# EAGLE library part RN (library rc)
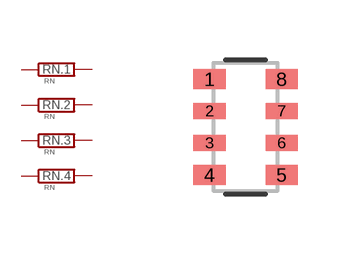
[diagram p2: symbol with the pads of R_4X0603; footprint R_4X0603]

Designator prefix RN; gates .1=R .2=R .3=R .4=R

## RN-1%-0603 (PACKAGE: RN0603; TOLERANCE: 1%), RN-5%-0603 (PACKAGE: RN0603; TOLERANCE: 5%)  [R_4X0603]
1  .1:1  pas
2  .2:1  pas
3  .3:1  pas
4  .4:1  pas
5  .4:2  pas
6  .3:2  pas
7  .2:2  pas
8  .1:2  pas

## Footprint R_4X0603 (pad centres in mm)
Chip Resistor Network, ROHM MNR14 (see mnr_g.pdf) 3D model <https://grabcad.com/library/102-network-smd-resistor-1>
smd 0.8 x 0.5: 1 -0.9,1.2; 4 -0.9,-1.2; 5 0.9,-1.2; 8 0.9,1.2
smd 0.8 x 0.4: 2 -0.9,0.4; 3 -0.9,-0.4; 6 0.9,-0.4; 7 0.9,0.4